# Altium schematic symbol library PSU.SchLib: 18 symbols
Pins are listed as number, name and electrical type; pins without a type are passive.

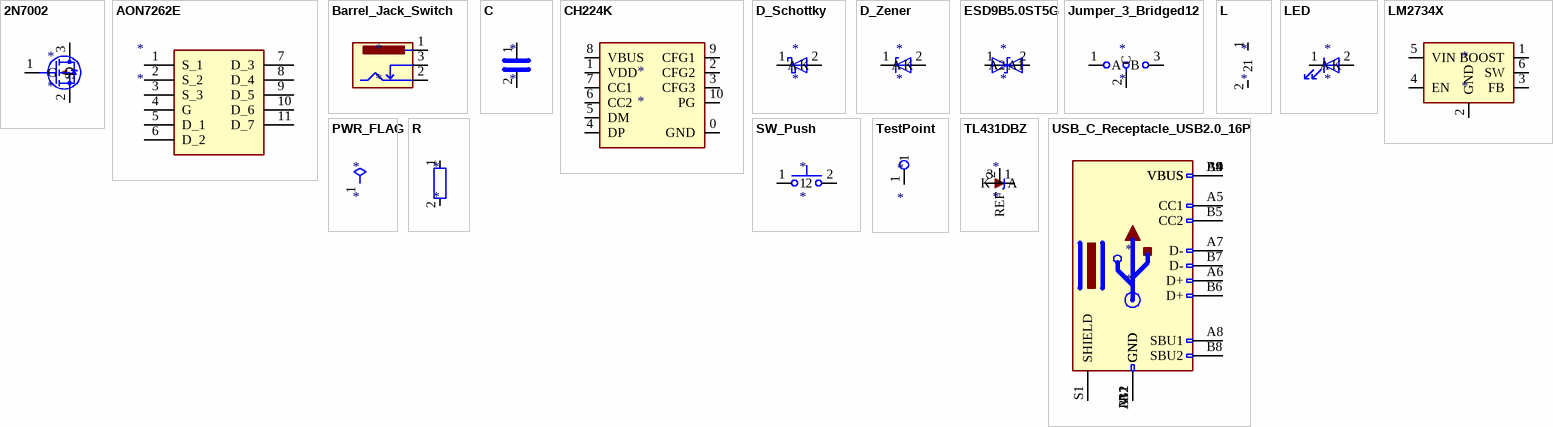
[diagram p0: symbols 2N7002 to USB_C_Receptacle_USB2.0_16P]

## 2N7002
designator *
pins: 1 G, 2 S, 3 D

## AON7262E
designator *
pins: 1 S_1, 2 S_2, 3 S_3, 4 G, 5 D_1, 6 D_2, 7 D_3, 8 D_4, 9 D_5, 10 D_6, 11 D_7

## Barrel_Jack_Switch
designator *
pins: 1, 2, 3

## C
designator *
pins: 1, 2

## CH224K
designator *
pins: 0 GND, 1 VDD, 2 CFG2, 3 CFG3, 4 DP, 5 DM, 6 CC2, 7 CC1, 8 VBUS, 9 CFG1, 10 PG

## D_Schottky
designator *
pins: 1 K, 2 A

## D_Zener
designator *
pins: 1 K, 2 A

## ESD9B5.0ST5G
designator *
pins: 1 A1, 2 A2

## Jumper_3_Bridged12
designator *
pins: 1 A, 2 C, 3 B

## L
designator *
pins: 1, 2

## LED
designator *
pins: 1 K, 2 A

## LM2734X
designator *
pins: 1 BOOST, 2 GND, 3 FB, 4 EN, 5 VIN, 6 SW

## PWR_FLAG
designator *  (graphical)
pins: 1

## R
designator *
pins: 1, 2

## SW_Push
designator *
pins: 1, 2

## TestPoint
designator *
pins: 1

## TL431DBZ
designator *
pins: 1 K, 2 REF, 3 A

## USB_C_Receptacle_USB2.0_16P
designator *
pins: A1 GND, A4 VBUS, A5 CC1, A6 D+, A7 D-, A8 SBU1, A9 VBUS, A12 GND, B1 GND, B4 VBUS, B5 CC2, B6 D+, B7 D-, B8 SBU2, B9 VBUS, B12 GND, S1 SHIELD